# EAGLE library part NSD15-12S5 (library dc-dc-converter)
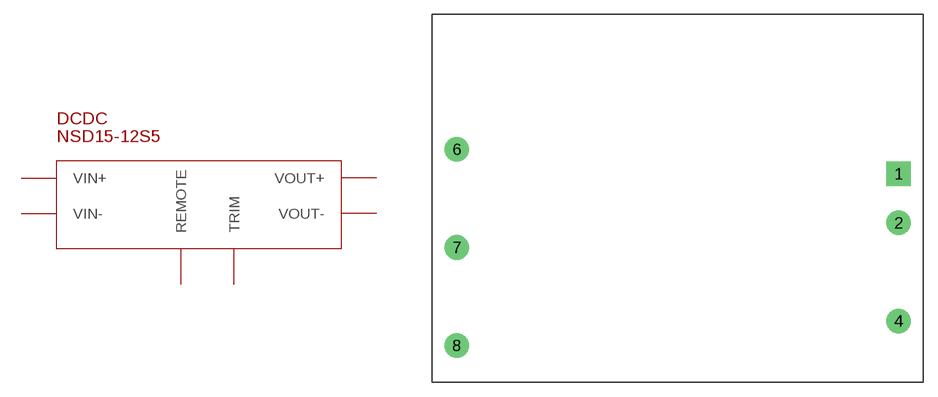
[diagram p10: symbol with the pads of NSD15-12S5; footprint NSD15-12S5]

Designator prefix DCDC

## NSD15-12S5  [NSD15-12S5]
1  VIN+
2  VIN-
4  REMOTE
6  VOUT+
7  VOUT-
8  TRIM

## Footprint NSD15-12S5 (pad centres in mm)
drill 1.143 pad 2.54 square: 1 24.13,3.81
drill 1.143 pad 2.54: 2 24.13,-1.27; 4 24.13,-11.43; 6 -21.59,6.35; 7 -21.59,-3.81; 8 -21.59,-13.97